# EAGLE library part INA321 (library op-amp)
OP-AMP - Single microPower, Single-Supply, CMOS Instrumentation Amplifier
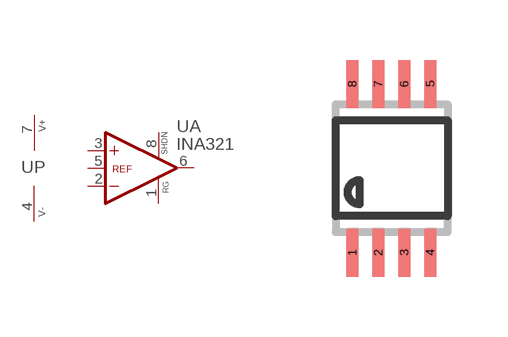
[diagram p22: symbol with the pads of MSOP08; footprint MSOP08]

Designator prefix U; gates A=INA321 P=PWRN_V+-

## INA321PW  [MSOP08]
1  A:RG  pas
2  A:-IN  in
3  A:+IN  in
4  P:V-  pwr
5  A:REF  in
6  A:OUT  out
7  P:V+  pwr
8  A:SHDN  pas

## Footprint MSOP08 (pad centres in mm)
Mini Small Outline Package
smd 0.3 x 1.2: 1 -0.976,-2.113; 2 -0.326,-2.113; 3 0.324,-2.113; 4 0.974,-2.113; 5 0.974,2.112; 6 0.324,2.112; 7 -0.326,2.112; 8 -0.976,2.112